# EAGLE library part FEZ_CERB_40 (library ozlollc)
FEZ Cerb 40 GHI Electronics STM32F4 http://www.ghielectronics.com/catalog/product/353
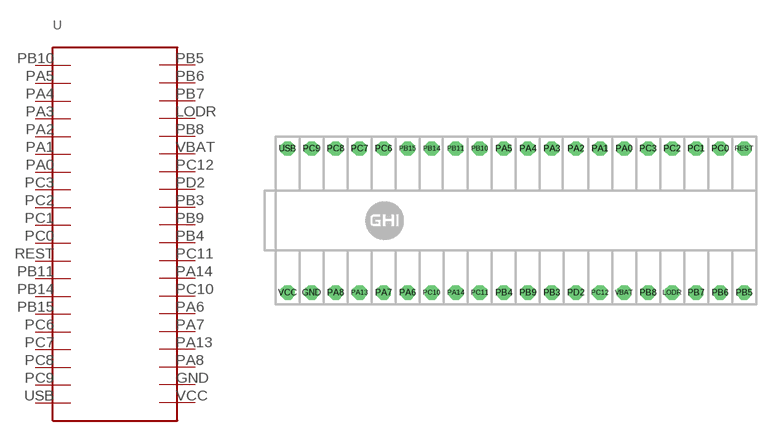
[diagram p1: symbol with the pads of FEZ_CERB_40; footprint FEZ_CERB_40]

Designator prefix -

## FEZ_CERB_40 (VERSION: 1.1)  [FEZ_CERB_40]
GND  GND
LODR  LODR
PA0  PA0
PA1  PA1
PA2  PA2
PA3  PA3
PA4  PA4
PA5  PA5
PA6  PA6
PA7  PA7
PA8  PA8
PA13  PA13
PA14  PA14
PB3  PB3
PB4  PB4
PB5  PB5
PB6  PB6
PB7  PB7
PB8  PB8
PB9  PB9
PB10  PB10
PB11  PB11
PB14  PB14
PB15  PB15
PC0  PC0
PC1  PC1
PC2  PC2
PC3  PC3
PC6  PC6
PC7  PC7
PC8  PC8
PC9  PC9
PC10  PC10
PC11  PC11
PC12  PC12
PD2  PD2
REST  REST
USB  USB
VBAT  VBAT
VCC  VCC

## Footprint FEZ_CERB_40 (pad centres in mm)
drill 1.016 pad 1.524 octagon: GND 4.064,1.524; LODR 42.164,1.524; PA0 37.084,16.764; PA1 34.544,16.764; PA2 32.004,16.764; PA3 29.464,16.764; PA4 26.924,16.764; PA5 24.384,16.764; PA6 14.224,1.524; PA7 11.684,1.524; PA8 6.604,1.524; PA13 9.144,1.524; PA14 19.304,1.524; PB3 29.464,1.524; PB4 24.384,1.524; PB5 49.784,1.524; PB6 47.244,1.524; PB7 44.704,1.524; PB8 39.624,1.524; PB9 26.924,1.524; PB10 21.844,16.764; PB11 19.304,16.764; PB14 16.764,16.764; PB15 14.224,16.764; PC0 47.244,16.764; PC1 44.704,16.764; PC2 42.164,16.764; PC3 39.624,16.764; PC6 11.684,16.764; PC7 9.144,16.764; PC8 6.604,16.764; PC9 4.064,16.764; PC10 16.764,1.524; PC11 21.844,1.524; PC12 34.544,1.524; PD2 32.004,1.524; REST 49.784,16.764; USB 1.524,16.764; VBAT 37.084,1.524; VCC 1.524,1.524